# EAGLE library part 4X4_KEYPAD (library Eletromechanical > Switches > Tactile Switches)
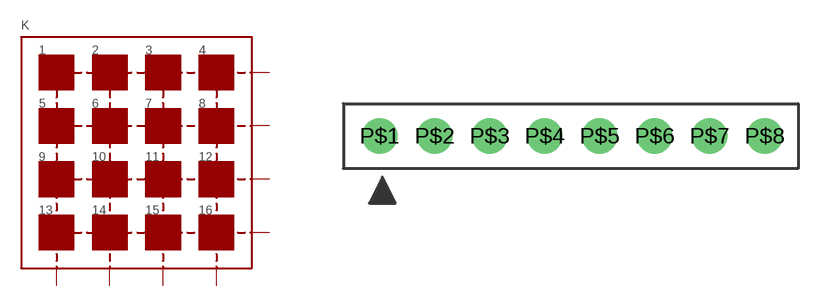
[diagram p0: symbol with the pads of 1X8_2.54; footprint 1X8_2.54]

Designator prefix K

## 4X4_KEYPAD  [1X8_2.54]
P$1  ROW1
P$2  ROW2
P$3  ROW3
P$4  ROW4
P$5  COL1
P$6  COL2
P$7  COL3
P$8  COL4

## Footprint 1X8_2.54 (pad centres in mm)
drill 1.1: P$1 -7.62,0; P$2 -5.08,0; P$3 -2.54,0; P$4 0,0; P$5 2.54,0; P$6 5.08,0; P$7 7.62,0; P$8 10.16,0